# Altium footprint library TO545P515X1560X2445-3P.PcbLib: 1 footprints
Each footprint in its own frame and in the unit in brackets; x right, y up, seen from the top. Pads: shape width x height; smd on the part's side, far side on the other; paste and mask are expansions set on the pad; w line width, h text height; cw(c..) or ccw(c..) is an arc to the next point about the centre after c.
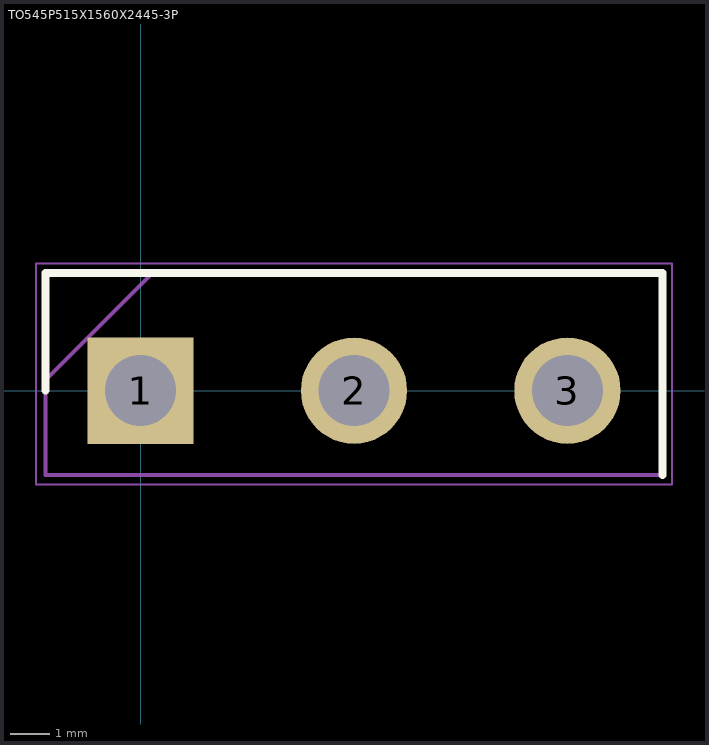
[diagram p0: the footprint, top view; thin cyan lines are the x and y axes]

## TO545P515X1560X2445-3P [mm]
pads (3):
  rect 2.715x2.715 / inner round 2.715 / far side rect 2.715x2.715 hole 1.81: 1(0,0)
  round 2.715 hole 1.81: 2(5.45,0) 3(10.9,0)
Top Overlay:
  lines w0.2: -2.425,0 -2.425,3 13.325,3 13.325,-2.15
Mechanical 15:
  lines w0.1: -2.425,0.275 0.3,3 ; -2.425,-2.15 13.325,-2.15 13.325,3 -2.425,3 -2.425,-2.15
Mechanical 20:
  lines w0.05: -2.675,-2.4 13.575,-2.4 13.575,3.25 -2.675,3.25 -2.675,-2.4